# EAGLE library part RPI-AUX_BOARD_CONNECTOR (library thanics_robotics)
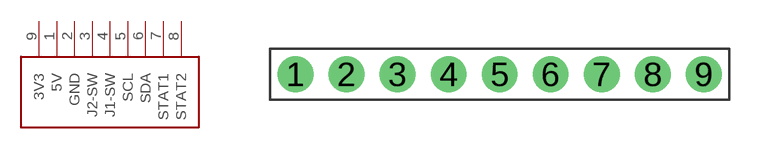
[diagram p7: symbol with the pads of 9_PIN_CONNECTOR; footprint 9_PIN_CONNECTOR]

Designator prefix -

## RPI-AUX_BOARD_CONNECTOR  [9_PIN_CONNECTOR]
1  5V
2  GND
3  J2-SW
4  J1-SW
5  SCL
6  SDA
7  STAT1
8  STAT2
9  3V3

## Footprint 9_PIN_CONNECTOR (pad centres in mm)
drill 1 pad 1.778: 1 -8.89,0; 2 -6.35,0; 3 -3.81,0; 4 -1.27,0; 5 1.27,0; 6 3.81,0; 7 6.35,0; 8 8.89,0; 9 11.43,0